# Altium footprint library STM32 V3.11.PcbLib: 42 footprints (part 1 of 3)
Each footprint in its own frame and in the unit in brackets; x right, y up, seen from the top. Pads: shape width x height; smd on the part's side, far side on the other; paste and mask are expansions set on the pad; w line width, h text height; cw(c..) or ccw(c..) is an arc to the next point about the centre after c.
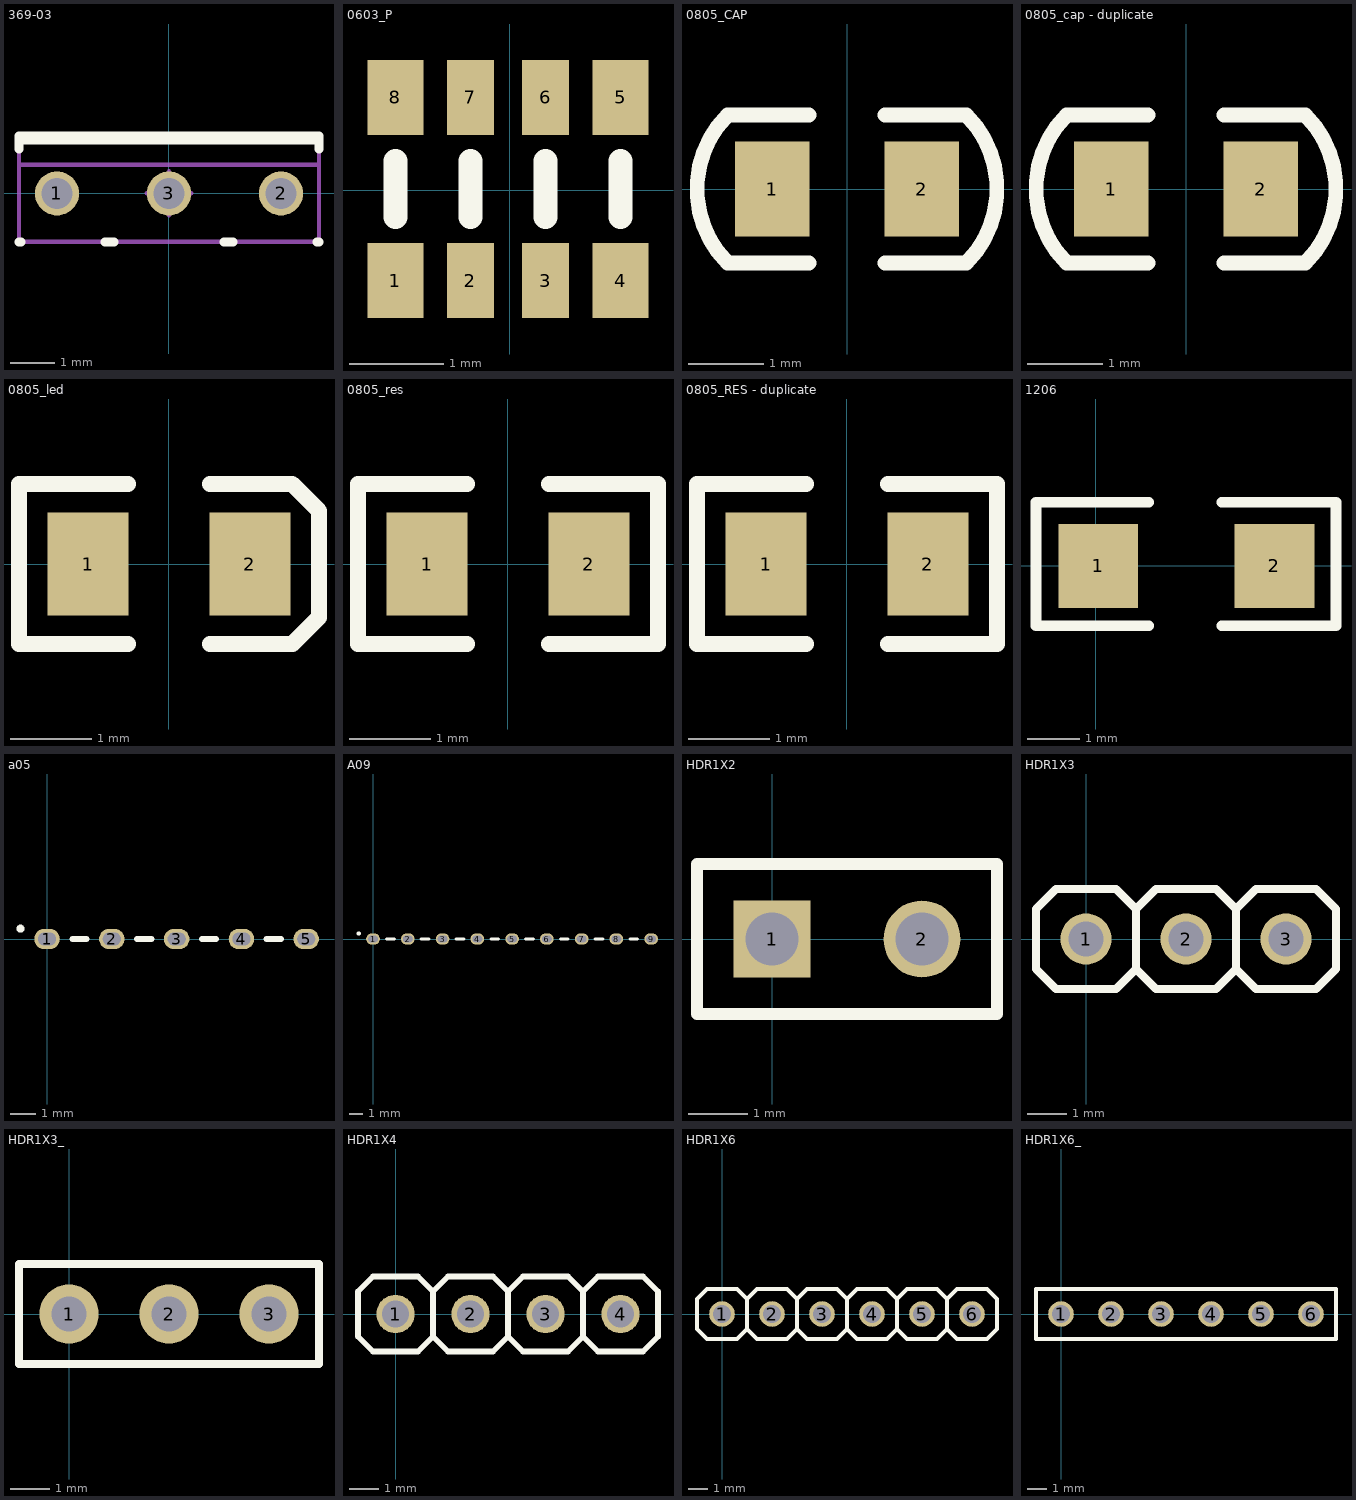
[diagram p0: the footprints below, top view; thin cyan lines are the x and y axes]

## 369-03 [mm]
pads (3):
  round 1 / inner round 1.4 / far side round 1.4 hole 0.7: 1(-2.54,0) 2(2.54,0) 3(0,0)
Top Overlay:
  lines w0.2: -3.4,-1.1 -3.35,-1.1 ; -3.4,1 -3.4,1.3 3.4,1.3 3.4,1 ; -3.4,1.21 3.4,1.21 ; -1.45,-1.1 -1.25,-1.1 ; 1.25,-1.1 1.45,-1.1 ; 3.35,-1.1 3.4,-1.1
Mechanical 13:
  lines w0.1: -3.4,0.65 3.4,0.65 ; -3.4,-1.1 3.4,-1.1 3.4,1.3 -3.4,1.3 -3.4,-1.1
Mechanical 15:
  lines w0.1: -0.5,0 0.5,0 ; 0,-0.5 0,0.5
3D body: height 11.55, standoff -6.4, extent -4.777,-2.418 4.753,2.413

## 0603_P [mm]
pads (8):
  rect 0.6x0.8 smd: 1(-1.219,-0.965) 4(1.181,-0.965) 5(1.181,0.991) 8(-1.219,0.991)
  rect 0.5x0.8 smd: 2(-0.419,-0.965) 3(0.381,-0.965) 6(0.381,0.991) 7(-0.419,0.991)
Top Overlay:
  lines w0.254: -1.219,-0.287 -1.219,0.313 ; -0.419,-0.287 -0.419,0.313 ; 0.381,-0.287 0.381,0.313 ; 1.181,-0.287 1.181,0.313
3D body: height 0.4, standoff 0, extent 0.751,-0.775 1.601,0.825
3D body: height 0.4, standoff 0, extent -0.041,-0.775 0.809,0.825
3D body: height 0.4, standoff 0, extent -0.825,-0.775 0.025,0.825
3D body: height 0.4, standoff 0, extent -1.586,-0.775 -0.736,0.825

## 0805_CAP [mm]
pads (2):
  rect 1x1.27 smd: 1(-1,0) 2(1,0)
Top Overlay:
  lines w0.2: -0.508,-0.989 -1.596,-0.989 cw(c-0.607,0) -1.596,0.989 -0.508,0.989 ; 0.508,-0.989 1.596,-0.989 ccw(c0.607,0) 1.596,0.989 0.508,0.989
3D body: height 0.9, standoff 0, extent -1.035,-0.598 0.965,0.602

## 0805_cap - duplicate [mm]
pads (2):
  rect 1x1.27 smd: 1(-1,0) 2(1,0)
Top Overlay:
  lines w0.2: -0.508,-0.989 -1.596,-0.989 cw(c-0.607,0) -1.596,0.989 -0.508,0.989 ; 0.508,-0.989 1.596,-0.989 ccw(c0.607,0) 1.596,0.989 0.508,0.989
3D body: height 0.9, standoff 0, extent -1.035,-0.598 0.965,0.602

## 0805_led [mm]
pads (2):
  rect 1x1.27 smd: 1(-0.998,0.002) 2(1.002,0.002)
Top Overlay:
  lines w0.2: -0.506,-0.987 -1.852,-0.987 -1.852,0.991 -0.506,0.991 ; 0.51,-0.987 1.527,-0.987 1.856,-0.659 1.856,0.659 1.524,0.991 0.51,0.991
3D body: height 1.1, standoff 0, extent -0.974,-0.623 1.046,0.637

## 0805_res [mm]
pads (2):
  rect 1x1.27 smd: 1(-0.998,0.002) 2(1.002,0.002)
Top Overlay:
  lines w0.2: -0.506,-0.987 -1.852,-0.987 -1.852,0.991 -0.506,0.991 ; 0.51,-0.987 1.856,-0.987 1.856,0.991 0.51,0.991
3D body: height 0.5, standoff 0, extent -0.963,-0.598 1.037,0.602

## 0805_RES - duplicate [mm]
pads (2):
  rect 1x1.27 smd: 1(-0.998,0.002) 2(1.002,0.002)
Top Overlay:
  lines w0.2: -0.506,-0.987 -1.852,-0.987 -1.852,0.991 -0.506,0.991 ; 0.51,-0.987 1.856,-0.987 1.856,0.991 0.51,0.991
3D body: height 0.5, standoff 0, extent -0.963,-0.598 1.037,0.602

## 1206 [mm]
pads (2):
  rect 1.524x1.6 smd: 1(0.051,0) 2(3.42,0)
Top Overlay:
  lines w0.203: 1.016,-1.143 -1.143,-1.143 -1.143,1.219 1.016,1.219 ; 2.413,-1.143 4.597,-1.143 4.597,1.219 2.413,1.219
3D body: height 0.59, standoff -0.01, extent 0.153,-0.81 3.353,0.81

## a05 [mm]
pads (5):
  oval 1x0.8 hole 0.5 slot 0.7 at 0 deg: 1(0,0) 2(2.54,0) 3(5.08,0) 4(7.62,0) 5(10.16,0)
Top Overlay:
  circle w0.2: c-1.041,0.406 r0.057
  lines w0.254: 1,0 1.54,0 ; 3.54,0 4.08,0 ; 6.08,0 6.62,0 ; 8.62,0 9.16,0

## A09 [mm]
pads (9):
  oval 1x0.8 hole 0.5 slot 0.7 at 0 deg: 1(0,0) 2(2.54,0) 3(5.08,0) 4(7.62,0) 5(10.16,0) 6(12.7,0) 7(15.24,0) 8(17.78,0) 9(20.32,0)
Top Overlay:
  circle w0.2: c-1.041,0.406 r0.057
  lines w0.254: 1,0 1.54,0 ; 3.54,0 4.08,0 ; 6.08,0 6.62,0 ; 8.62,0 9.16,0 ; 11.16,0 11.7,0 ; 13.7,0 14.24,0 ; 16.24,0 16.78,0 ; 18.78,0 19.32,0
3D body: height 5.3, standoff -3.2, extent -1.012,-0.635 21.488,0.615

## HDR1X2 [mm] "Connector; Header; 2 Position"
pads (2):
  rect 1.3x1.3 / inner rect 1.5x1.5 / far side rect 1.5x1.5 hole 0.9: 1(0,0)
  round 1.3 / inner round 1.5 / far side round 1.5 hole 0.9: 2(2.54,0)
Top Overlay:
  lines w0.2: -1.27,-1.27 3.81,-1.27 3.81,1.27 -1.27,1.27 -1.27,-1.27

## HDR1X3 [mm]
pads (3):
  round 1.3 / inner round 1.5 / far side round 1.5 hole 0.9: 1(0,0) 2(2.54,0) 3(5.08,0)
Top Overlay:
  lines w0.2: 1.27,-0.762 0.762,-1.27 -0.762,-1.27 -1.27,-0.762 -1.27,0.762 -0.762,1.27 0.762,1.27 1.27,0.762 ; 1.27,-0.762 1.778,-1.27 3.302,-1.27 3.81,-0.762 ; 1.27,-0.762 1.27,0.762 ; 1.27,0.762 1.778,1.27 3.302,1.27 3.81,0.762 ; 3.81,-0.762 4.318,-1.27 5.842,-1.27 6.35,-0.762 6.35,0.762 5.842,1.27 4.318,1.27 3.81,0.762 ; 3.81,-0.762 3.81,0.762
3D body: height 7.58, standoff -2.94, extent 3.81,-1.27 6.35,1.27
3D body: height 7.58, standoff -2.94, extent 1.27,-1.27 3.81,1.27
3D body: height 7.58, standoff -2.94, extent -1.27,-1.27 1.27,1.27

## HDR1X3_ [mm]
pads (3):
  round 1.5 hole 0.9: 1(0,0) 2(2.54,0) 3(5.08,0)
Top Overlay:
  lines w0.2: -1.27,-1.27 -1.27,1.27 ; -1.25,-1.27 6.35,-1.27 6.35,1.27 -1.25,1.27
3D body: height 8.2, standoff -3.1, extent -1.3,-1.27 1.24,1.27
3D body: height 8.2, standoff -3.1, extent 1.24,-1.27 3.78,1.27
3D body: height 8.2, standoff -3.1, extent 3.78,-1.27 6.32,1.27
3D body: height 8.2, standoff -3.1, extent 1.24,-1.27 3.78,1.27

## HDR1X4 [mm]
pads (4):
  round 1.3 / inner round 1.5 / far side round 1.5 hole 0.9: 1(0,0) 2(2.54,0) 3(5.08,0) 4(7.62,0)
Top Overlay:
  lines w0.2: 1.27,-0.762 1.27,0.762 ; 1.27,-0.762 1.778,-1.27 3.302,-1.27 3.81,-0.762 ; 1.27,-0.762 0.762,-1.27 -0.762,-1.27 -1.27,-0.762 -1.27,0.762 -0.762,1.27 0.762,1.27 1.27,0.762 ; 1.27,0.762 1.778,1.27 3.302,1.27 3.81,0.762 ; 3.81,-0.762 3.81,0.762 ; 3.81,-0.762 4.318,-1.27 5.842,-1.27 6.35,-0.762 ; 3.81,-0.762 3.81,0.762 ; 3.81,0.762 4.318,1.27 5.842,1.27 6.35,0.762 ; 6.35,-0.762 6.35,0.762 ; 6.35,-0.762 6.858,-1.27 8.382,-1.27 8.89,-0.762 8.89,0.762 8.382,1.27 6.858,1.27 6.35,0.762
3D body: height 7.58, standoff -2.94, extent 6.35,-1.27 8.89,1.27
3D body: height 7.58, standoff -2.94, extent 3.81,-1.27 6.35,1.27
3D body: height 7.58, standoff -2.94, extent 1.27,-1.27 3.81,1.27
3D body: height 7.58, standoff -2.94, extent -1.27,-1.27 1.27,1.27

## HDR1X6 [mm]
pads (6):
  round 1.3 / inner round 1.5 / far side round 1.5 hole 0.9: 1(0,0) 2(2.54,0) 3(5.08,0) 4(7.62,0) 5(10.16,0) 6(12.7,0)
Top Overlay:
  lines w0.2: 1.27,-0.762 1.778,-1.27 3.302,-1.27 3.81,-0.762 ; 1.27,-0.762 0.762,-1.27 -0.762,-1.27 -1.27,-0.762 -1.27,0.762 -0.762,1.27 0.762,1.27 1.27,0.762 ; 1.27,-0.762 1.27,0.762 ; 1.27,0.762 1.778,1.27 3.302,1.27 3.81,0.762 ; 3.81,-0.762 4.318,-1.27 5.842,-1.27 6.35,-0.762 ; 3.81,-0.762 3.81,0.762 ; 3.81,-0.762 3.81,0.762 ; 3.81,0.762 4.318,1.27 5.842,1.27 6.35,0.762 ; 6.35,-0.762 6.858,-1.27 8.382,-1.27 8.89,-0.762 ; 6.35,-0.762 6.35,0.762 ; 6.35,0.762 6.858,1.27 8.382,1.27 8.89,0.762 ; 8.89,-0.762 9.398,-1.27 10.922,-1.27 11.43,-0.762 ; 8.89,-0.762 8.89,0.762 ; 8.89,-0.762 8.89,0.762 ; 8.89,0.762 9.398,1.27 10.922,1.27 11.43,0.762 ; 11.43,-0.762 11.938,-1.27 13.462,-1.27 13.97,-0.762 13.97,0.762 13.462,1.27 11.938,1.27 11.43,0.762 ; 11.43,-0.762 11.43,0.762 ; 11.43,-0.762 11.43,0.762 ; 11.43,-0.762 11.43,0.762
3D body: height 7.58, standoff -2.94, extent 1.27,-1.27 3.81,1.27
3D body: height 7.58, standoff -2.94, extent -1.27,-1.27 1.27,1.27
3D body: height 7.58, standoff -2.94, extent 3.81,-1.27 6.35,1.27
3D body: height 7.58, standoff -2.94, extent 6.35,-1.27 8.89,1.27
3D body: height 7.58, standoff -2.94, extent 8.89,-1.27 11.43,1.27
3D body: height 7.58, standoff -2.94, extent 11.43,-1.27 13.97,1.27

## HDR1X6_ [mm]
pads (6):
  round 1.3 / inner round 1.5 / far side round 1.5 hole 0.9: 1(0,0) 2(2.54,0) 3(5.08,0) 4(7.62,0) 5(10.16,0) 6(12.7,0)
Top Overlay:
  lines w0.2: -1.27,-1.27 13.97,-1.27 13.97,1.27 -1.27,1.27 -1.27,-1.27
3D body: height 8.2, standoff -3.1, extent 11.4,-1.27 13.94,1.27
3D body: height 8.2, standoff -3.1, extent 6.32,-1.27 8.86,1.27
3D body: height 8.2, standoff -3.1, extent 8.86,-1.27 11.4,1.27
3D body: height 8.2, standoff -3.1, extent 1.24,-1.27 3.78,1.27
3D body: height 8.2, standoff -3.1, extent 3.78,-1.27 6.32,1.27
3D body: height 8.2, standoff -3.1, extent -1.3,-1.27 1.24,1.27